# EAGLE library part XC6LX4-2 (library OPLLib)
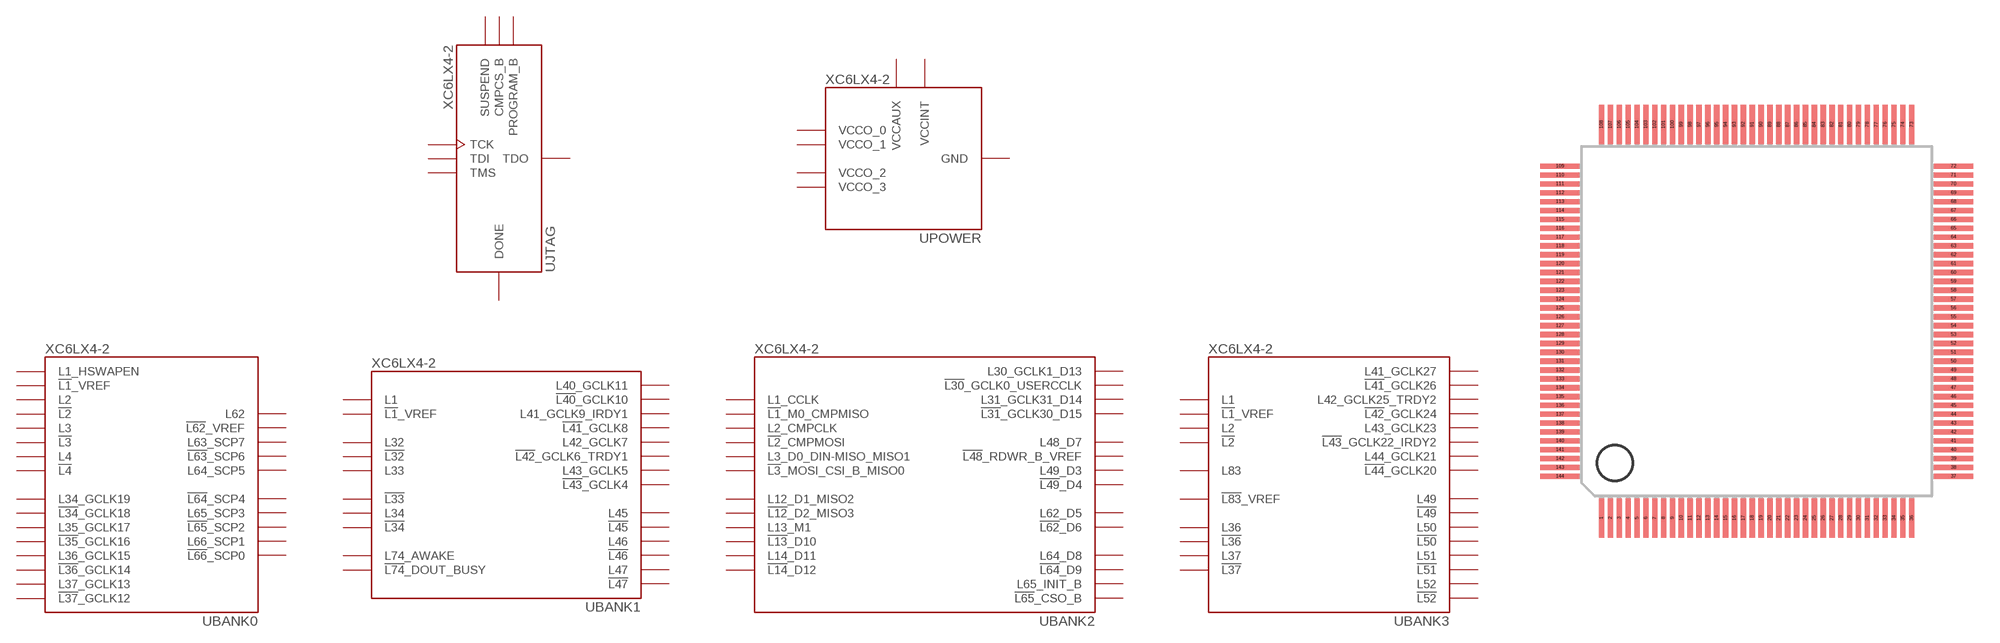
[diagram p0: symbol with the pads of TQFP144; footprint TQFP144]

Designator prefix U; gates JTAG=LX4-JTAG BANK0=LX4-BANK0 BANK1=LX4-BANK1 BANK2=LX4-BANK2 BANK3=LX4-BANK3 POWER=LX4-PWR

## XC6LX4-2 (MPN: XC6SLX4-2TQG144C; OC_FARNELL: 1876221)  [TQFP144]
1  BANK3:!L83!_VREF
2  BANK3:L83
3  POWER:GND  pwr
4  POWER:VCCO_3  pwr
5  BANK3:!L52
6  BANK3:L52
7  BANK3:!L51
8  BANK3:L51
9  BANK3:!L50
10  BANK3:L50
11  BANK3:!L49
12  BANK3:L49
13  POWER:GND  pwr
14  BANK3:!L44!_GCLK20
15  BANK3:L44_GCLK21
16  BANK3:!L43!_GCLK22_IRDY2
17  BANK3:L43_GCLK23
18  POWER:VCCO_3  pwr
19  POWER:VCCINT  pwr
20  POWER:VCCAUX  pwr
21  BANK3:!L42!_GCLK24
22  BANK3:L42_GCLK25_TRDY2
23  BANK3:!L41!_GCLK26
24  BANK3:L41_GCLK27
25  POWER:GND  pwr
26  BANK3:!L37
27  BANK3:L37
28  POWER:VCCINT  pwr
29  BANK3:!L36
30  BANK3:L36
31  POWER:VCCO_3  pwr
32  BANK3:!L2
33  BANK3:L2
34  BANK3:!L1!_VREF
35  BANK3:L1
36  POWER:VCCAUX  pwr
37  JTAG:PROGRAM_B  in
38  BANK2:!L65!_CSO_B
39  BANK2:L65_INIT_B
40  BANK2:!L64!_D9
41  BANK2:L64_D8
42  POWER:VCCO_2  pwr
43  BANK2:!L62!_D6
44  BANK2:L62_D5
45  BANK2:!L49!_D4
46  BANK2:L49_D3
47  BANK2:!L48!_RDWR_B_VREF
48  BANK2:L48_D7
49  POWER:GND  pwr
50  BANK2:!L31!_GCLK30_D15
51  BANK2:L31_GCLK31_D14
52  POWER:VCCINT  pwr
53  POWER:VCCAUX  pwr
54  POWER:GND  pwr
55  BANK2:!L30!_GCLK0_USERCCLK
56  BANK2:L30_GCLK1_D13
57  BANK2:!L14!_D12
58  BANK2:L14_D11
59  BANK2:!L13!_D10
60  BANK2:L13_M1
61  BANK2:!L12!_D2_MISO3
62  BANK2:L12_D1_MISO2
63  POWER:VCCO_2  pwr
64  BANK2:!L3!_MOSI_CSI_B_MISO0
65  BANK2:L3_D0_DIN-MISO_MISO1
66  BANK2:!L2!_CMPMOSI
67  BANK2:L2_CMPCLK
68  POWER:GND  pwr
69  BANK2:!L1!_M0_CMPMISO
70  BANK2:L1_CCLK
71  JTAG:DONE  out
72  JTAG:CMPCS_B
73  JTAG:SUSPEND  in
74  BANK1:!L74!_DOUT_BUSY
75  BANK1:L74_AWAKE
76  POWER:VCCO_1  pwr
77  POWER:GND  pwr
78  BANK1:!L47
79  BANK1:L47
80  BANK1:!L46
81  BANK1:L46
82  BANK1:!L45
83  BANK1:L45
84  BANK1:!L43!_GCLK4
85  BANK1:L43_GCLK5
86  POWER:VCCO_1  pwr
87  BANK1:!L42!_GCLK6_TRDY1
88  BANK1:L42_GCLK7
89  POWER:VCCINT  pwr
90  POWER:VCCAUX  pwr
91  POWER:GND  pwr
92  BANK1:!L41!_GCLK8
93  BANK1:L41_GCLK9_IRDY1
94  BANK1:!L40!_GCLK10
95  BANK1:L40_GCLK11
96  POWER:GND  pwr
97  BANK1:!L34
98  BANK1:L34
99  BANK1:!L33
100  BANK1:L33
101  BANK1:!L32
102  BANK1:L32
103  POWER:VCCO_1  pwr
104  BANK1:!L1!_VREF
105  BANK1:L1
106  JTAG:TDO  out
107  JTAG:TMS  in
108  POWER:GND  pwr
109  JTAG:TCK  in
110  JTAG:TDI  in
111  BANK0:!L66!_SCP0
112  BANK0:L66_SCP1
113  POWER:GND  pwr
114  BANK0:!L65!_SCP2
115  BANK0:L65_SCP3
116  BANK0:!L64!_SCP4
117  BANK0:L64_SCP5
118  BANK0:!L63!_SCP6
119  BANK0:L63_SCP7
120  BANK0:!L62!_VREF
121  BANK0:L62
122  POWER:VCCO_0  pwr
123  BANK0:!L37!_GCLK12
124  BANK0:L37_GCLK13
125  POWER:VCCO_0  pwr
126  BANK0:!L36!_GCLK14
127  BANK0:L36_GCLK15
128  POWER:VCCINT  pwr
129  POWER:VCCAUX  pwr
130  POWER:GND  pwr
131  BANK0:!L35!_GCLK16
132  BANK0:L35_GCLK17
133  BANK0:!L34!_GCLK18
134  BANK0:L34_GCLK19
135  POWER:VCCO_0  pwr
136  POWER:GND  pwr
137  BANK0:!L4
138  BANK0:L4
139  BANK0:!L3
140  BANK0:L3
141  BANK0:!L2
142  BANK0:L2
143  BANK0:!L1!_VREF
144  BANK0:L1_HSWAPEN

## Footprint TQFP144 (pad centres in mm)
Thin Quad Flat Pack
smd 0.3 x 2.2: 1 -8.75,-11.1; 2 -8.25,-11.1; 3 -7.75,-11.1; 4 -7.25,-11.1; 5 -6.75,-11.1; 6 -6.25,-11.1; 7 -5.75,-11.1; 8 -5.25,-11.1; 9 -4.75,-11.1; 10 -4.25,-11.1; 11 -3.75,-11.1; 12 -3.25,-11.1; 13 -2.75,-11.1; 14 -2.25,-11.1; 15 -1.75,-11.1; 16 -1.25,-11.1; 17 -0.75,-11.1; 18 -0.25,-11.1; 19 0.25,-11.1; 20 0.75,-11.1; 21 1.25,-11.1; 22 1.75,-11.1; 23 2.25,-11.1; 24 2.75,-11.1; 25 3.25,-11.1; 26 3.75,-11.1; 27 4.25,-11.1; 28 4.75,-11.1; 29 5.25,-11.1; 30 5.75,-11.1; 31 6.25,-11.1; 32 6.75,-11.1; 33 7.25,-11.1; 34 7.75,-11.1; 35 8.25,-11.1; 36 8.75,-11.1; 73 8.75,11.1; 74 8.25,11.1; 75 7.75,11.1; 76 7.25,11.1; 77 6.75,11.1; 78 6.25,11.1; 79 5.75,11.1; 80 5.25,11.1; 81 4.75,11.1; 82 4.25,11.1; 83 3.75,11.1; 84 3.25,11.1; 85 2.75,11.1; 86 2.25,11.1; 87 1.75,11.1; 88 1.25,11.1; 89 0.75,11.1; 90 0.25,11.1; 91 -0.25,11.1; 92 -0.75,11.1; 93 -1.25,11.1; 94 -1.75,11.1; 95 -2.25,11.1; 96 -2.75,11.1; 97 -3.25,11.1; 98 -3.75,11.1; 99 -4.25,11.1; 100 -4.75,11.1; 101 -5.25,11.1; 102 -5.75,11.1; 103 -6.25,11.1; 104 -6.75,11.1; 105 -7.25,11.1; 106 -7.75,11.1; 107 -8.25,11.1; 108 -8.75,11.1
smd 2.2 x 0.3: 37 11.1,-8.75; 38 11.1,-8.25; 39 11.1,-7.75; 40 11.1,-7.25; 41 11.1,-6.75; 42 11.1,-6.25; 43 11.1,-5.75; 44 11.1,-5.25; 45 11.1,-4.75; 46 11.1,-4.25; 47 11.1,-3.75; 48 11.1,-3.25; 49 11.1,-2.75; 50 11.1,-2.25; 51 11.1,-1.75; 52 11.1,-1.25; 53 11.1,-0.75; 54 11.1,-0.25; 55 11.1,0.25; 56 11.1,0.75; 57 11.1,1.25; 58 11.1,1.75; 59 11.1,2.25; 60 11.1,2.75; 61 11.1,3.25; 62 11.1,3.75; 63 11.1,4.25; 64 11.1,4.75; 65 11.1,5.25; 66 11.1,5.75; 67 11.1,6.25; 68 11.1,6.75; 69 11.1,7.25; 70 11.1,7.75; 71 11.1,8.25; 72 11.1,8.75; 109 -11.1,8.75; 110 -11.1,8.25; 111 -11.1,7.75; 112 -11.1,7.25; 113 -11.1,6.75; 114 -11.1,6.25; 115 -11.1,5.75; 116 -11.1,5.25; 117 -11.1,4.75; 118 -11.1,4.25; 119 -11.1,3.75; 120 -11.1,3.25; 121 -11.1,2.75; 122 -11.1,2.25; 123 -11.1,1.75; 124 -11.1,1.25; 125 -11.1,0.75; 126 -11.1,0.25; 127 -11.1,-0.25; 128 -11.1,-0.75; 129 -11.1,-1.25; 130 -11.1,-1.75; 131 -11.1,-2.25; 132 -11.1,-2.75; 133 -11.1,-3.25; 134 -11.1,-3.75; 135 -11.1,-4.25; 136 -11.1,-4.75; 137 -11.1,-5.25; 138 -11.1,-5.75; 139 -11.1,-6.25; 140 -11.1,-6.75; 141 -11.1,-7.25; 142 -11.1,-7.75; 143 -11.1,-8.25; 144 -11.1,-8.75